# Altium footprint library PcbLib1.PcbLib: 58 footprints (part 3 of 4)
Each footprint in its own frame and in the unit in brackets; x right, y up, seen from the top. Pads: shape width x height; smd on the part's side, far side on the other; paste and mask are expansions set on the pad; w line width, h text height; cw(c..) or ccw(c..) is an arc to the next point about the centre after c.
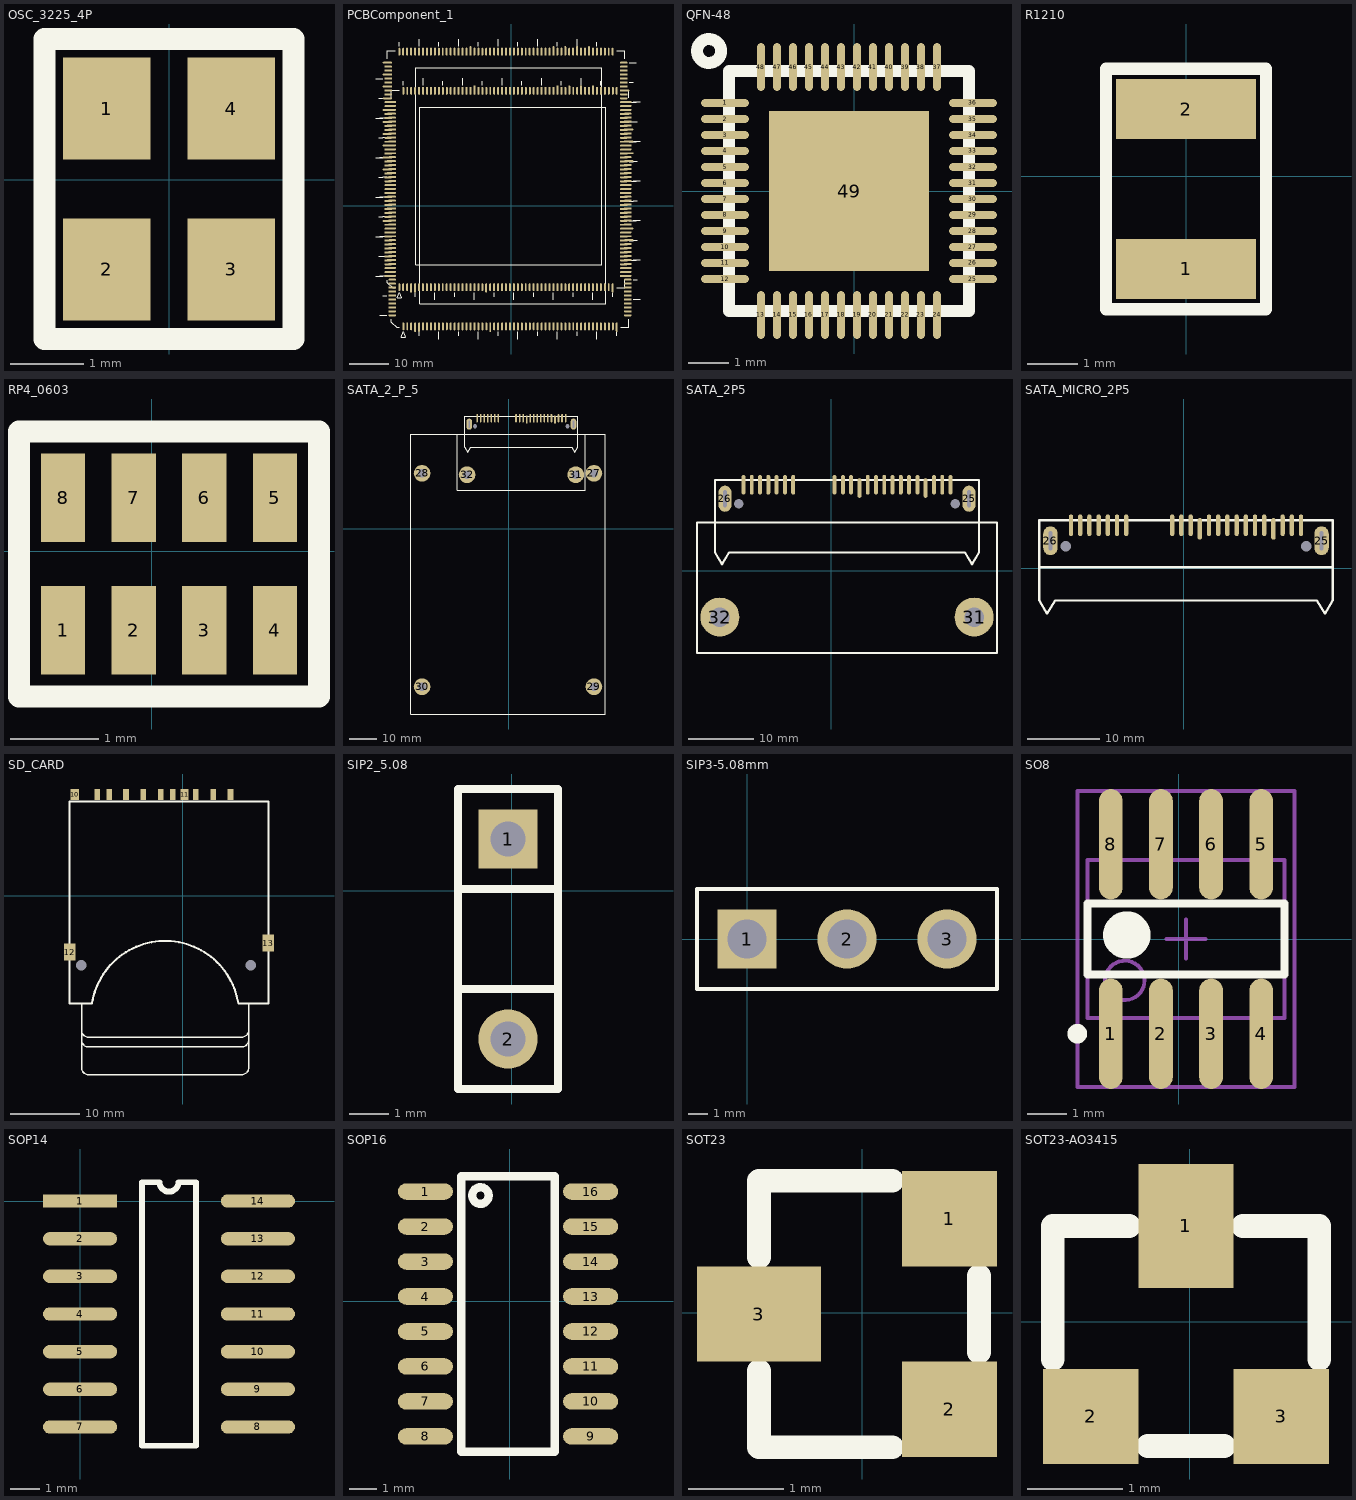
[diagram p2: the footprints below, top view; thin cyan lines are the x and y axes]

## OSC_3225_4P [mm]
pads (4):
  rect 1.2x1.4 smd: 1(-0.85,0.973) 2(-0.85,-1.227) 3(0.85,-1.227) 4(0.85,0.973)
Top Overlay:
  lines w0.3: -1.7,-2.177 1.7,-2.177 1.7,1.923 -1.7,1.923 -1.7,-2.177

## PCBComponent_1 [mm]
pads (440):
  oval 0.5x2 smd: 1(-28.27,-20.656) 1(-27.254,-30.562) 2(-27.27,-20.656) 2(-26.254,-30.562) 3(-26.27,-20.656) 3(-25.254,-30.562) 6(-23.27,-20.656) 6(-22.254,-30.562) 7(-22.27,-20.656) 7(-21.254,-30.562) 8(-21.27,-20.656) 8(-20.254,-30.562) 9(-20.27,-20.656) 9(-19.254,-30.562) 10(-19.27,-20.656) 10(-18.254,-30.562) 11(-18.27,-20.656) 11(-17.254,-30.562) 12(-17.27,-20.656) 12(-16.254,-30.562) 13(-16.27,-20.656) 13(-15.254,-30.562) 14(-15.27,-20.656) 14(-14.254,-30.562) 15(-14.27,-20.656) 15(-13.254,-30.562) 16(-13.27,-20.656) 16(-12.254,-30.562) 17(-12.27,-20.656) 17(-11.254,-30.562) 18(-11.27,-20.656) 18(-10.254,-30.562) 19(-10.27,-20.656) 19(-9.254,-30.562) 20(-9.27,-20.656) 20(-8.254,-30.562) 21(-8.27,-20.656) 21(-7.254,-30.562) 22(-7.27,-20.656) 22(-6.254,-30.562) 24(-5.27,-20.656) 24(-4.254,-30.562) 25(-4.27,-20.656) 25(-3.254,-30.562) 26(-3.27,-20.656) 26(-2.254,-30.562) 27(-2.27,-20.656) 27(-1.254,-30.562) 28(-1.27,-20.656) 28(-0.254,-30.562) 29(-0.27,-20.656) 29(0.746,-30.562) 30(0.73,-20.656) 30(1.746,-30.562) 31(1.73,-20.656) 31(2.746,-30.562) 32(2.73,-20.656) 32(3.746,-30.562) 33(3.73,-20.656) 33(4.746,-30.562) 34(4.73,-20.656) 34(5.746,-30.562) 35(5.73,-20.656) 35(6.746,-30.562) 36(6.73,-20.656) 36(7.746,-30.562) 37(7.73,-20.656) 37(8.746,-30.562) 38(8.73,-20.656) 38(9.746,-30.562) 39(9.73,-20.656) 39(10.746,-30.562) 40(10.73,-20.656) 40(11.746,-30.562) 41(11.73,-20.656) 41(12.746,-30.562) 42(12.73,-20.656) 42(13.746,-30.562) 43(13.73,-20.656) 43(14.746,-30.562) 44(14.73,-20.656) 44(15.746,-30.562) 45(15.73,-20.656) 45(16.746,-30.562) 46(16.73,-20.656) 46(17.746,-30.562) 47(17.73,-20.656) 47(18.746,-30.562) 48(18.73,-20.656) 48(19.746,-30.562) 49(19.73,-20.656) 49(20.746,-30.562) 50(20.73,-20.656) 50(21.746,-30.562) 51(21.73,-20.656) 51(22.746,-30.562) 52(22.73,-20.656) 52(23.746,-30.562) 53(23.73,-20.656) 53(24.746,-30.562) 54(24.73,-20.656) 54(25.746,-30.562) 111(25.73,38.944) 111(26.746,29.038) 112(24.73,38.944) 112(25.746,29.038) 113(23.73,38.944) 113(24.746,29.038) 114(22.73,38.944) 114(23.746,29.038) 115(21.73,38.944) 115(22.746,29.038) 116(20.73,38.944) 116(21.746,29.038) 118(18.73,38.944) 118(19.746,29.038) 119(17.73,38.944) 119(18.746,29.038) 121(15.73,38.944) 121(16.746,29.038) 122(14.73,38.944) 122(15.746,29.038) 124(12.73,38.944) 124(13.746,29.038) 125(11.73,38.944) 125(12.746,29.038) 127(9.73,38.944) 127(10.746,29.038) 128(8.73,38.944) 128(9.746,29.038) 129(7.73,38.944) 129(8.746,29.038) 130(6.73,38.944) 130(7.746,29.038) 131(5.73,38.944) 131(6.746,29.038) 132(4.73,38.944) 132(5.746,29.038) 133(3.73,38.944) 133(4.746,29.038) 134(2.73,38.944) 134(3.746,29.038) 135(1.73,38.944) 135(2.746,29.038) 136(0.73,38.944) 136(1.746,29.038) 137(-0.27,38.944) 137(0.746,29.038) 138(-1.27,38.944) 138(-0.254,29.038) 139(-2.27,38.944) 139(-1.254,29.038) 140(-3.27,38.944) 140(-2.254,29.038) 141(-4.27,38.944) 141(-3.254,29.038) 142(-5.27,38.944) 142(-4.254,29.038) 143(-6.27,38.944) 143(-5.254,29.038) 144(-7.27,38.944) 144(-6.254,29.038) 145(-8.27,38.944) 145(-7.254,29.038) 146(-9.27,38.944) 146(-8.254,29.038) 148(-11.27,38.944) 148(-10.254,29.038) 149(-12.27,38.944) 149(-11.254,29.038) 150(-13.27,38.944) 150(-12.254,29.038) 151(-14.27,38.944) 151(-13.254,29.038) 152(-15.27,38.944) 152(-14.254,29.038) 153(-16.27,38.944) 153(-15.254,29.038) 154(-17.27,38.944) 154(-16.254,29.038) 155(-18.27,38.944) 155(-17.254,29.038) 156(-19.27,38.944) 156(-18.254,29.038) 157(-20.27,38.944) 157(-19.254,29.038) 158(-21.27,38.944) 158(-20.254,29.038) 159(-22.27,38.944) 159(-21.254,29.038) 160(-23.27,38.944) 160(-22.254,29.038) 161(-24.27,38.944) 161(-23.254,29.038) 162(-25.27,38.944) 162(-24.254,29.038) 163(-26.27,38.944) 163(-25.254,29.038) 164(-27.27,38.944) 164(-26.254,29.038) 165(-28.27,38.944) 165(-27.254,29.038)
  oval 0.5x2.4 smd: 4(-25.27,-20.856) 4(-24.254,-30.762) 5(-24.27,-20.856) 5(-23.254,-30.762) 23(-6.27,-20.856) 23(-5.254,-30.762) 55(25.73,-20.856) 55(26.746,-30.762) 117(19.73,39.144) 117(20.746,29.238) 120(16.73,39.144) 120(17.746,29.238) 123(13.73,39.144) 123(14.746,29.238) 126(10.73,39.144) 126(11.746,29.238) 147(-10.27,39.144) 147(-9.254,29.238)
  oval 2x0.5 smd: 56(28.53,-17.856) 56(29.546,-27.762) 57(28.53,-16.856) 57(29.546,-26.762) 58(28.53,-15.856) 58(29.546,-25.762) 59(28.53,-14.856) 59(29.546,-24.762) 60(28.53,-13.856) 60(29.546,-23.762) 61(28.53,-12.856) 61(29.546,-22.762) 62(28.53,-11.856) 62(29.546,-21.762) 63(28.53,-10.856) 63(29.546,-20.762) 64(28.53,-9.856) 64(29.546,-19.762) 65(28.53,-8.856) 65(29.546,-18.762) 66(28.53,-7.856) 66(29.546,-17.762) 67(28.53,-6.856) 67(29.546,-16.762) 68(28.53,-5.856) 68(29.546,-15.762) 69(28.53,-4.856) 69(29.546,-14.762) 70(28.53,-3.856) 70(29.546,-13.762) 71(28.53,-2.856) 71(29.546,-12.762) 72(28.53,-1.856) 72(29.546,-11.762) 73(28.53,-0.856) 73(29.546,-10.762) 74(28.53,0.144) 74(29.546,-9.762) 76(28.53,2.144) 76(29.546,-7.762) 77(28.53,3.144) 77(29.546,-6.762) 79(28.53,5.144) 79(29.546,-4.762) 80(28.53,6.144) 80(29.546,-3.762) 81(28.53,7.144) 81(29.546,-2.762) 82(28.53,8.144) 82(29.546,-1.762) 83(28.53,9.144) 83(29.546,-0.762) 84(28.53,10.144) 84(29.546,0.238) 85(28.53,11.144) 85(29.546,1.238) 86(28.53,12.144) 86(29.546,2.238) 87(28.53,13.144) 87(29.546,3.238) 88(28.53,14.144) 88(29.546,4.238) 89(28.53,15.144) 89(29.546,5.238) 90(28.53,16.144) 90(29.546,6.238) 91(28.53,17.144) 91(29.546,7.238) 92(28.53,18.144) 92(29.546,8.238) 93(28.53,19.144) 93(29.546,9.238) 94(28.53,20.144) 94(29.546,10.238) 96(28.53,22.144) 96(29.546,12.238) 98(28.53,24.144) 98(29.546,14.238) 99(28.53,25.144) 99(29.546,15.238) 101(28.53,27.144) 101(29.546,17.238) 102(28.53,28.144) 102(29.546,18.238) 104(28.53,30.144) 104(29.546,20.238) 105(28.53,31.144) 105(29.546,21.238) 106(28.53,32.144) 106(29.546,22.238) 107(28.53,33.144) 107(29.546,23.238) 108(28.53,34.144) 108(29.546,24.238) 109(28.53,35.144) 109(29.546,25.238) 110(28.53,36.144) 110(29.546,26.238) 167(-31.07,35.144) 167(-30.054,25.238) 168(-31.07,34.144) 168(-30.054,24.238) 170(-31.07,32.144) 170(-30.054,22.238) 171(-31.07,31.144) 171(-30.054,21.238) 173(-31.07,29.144) 173(-30.054,19.238) 174(-31.07,28.144) 174(-30.054,18.238) 176(-31.07,26.144) 176(-30.054,16.238) 177(-31.07,25.144) 177(-30.054,15.238) 179(-31.07,23.144) 179(-30.054,13.238) 180(-31.07,22.144) 180(-30.054,12.238) 182(-31.07,20.144) 182(-30.054,10.238) 183(-31.07,19.144) 183(-30.054,9.238) 185(-31.07,17.144) 185(-30.054,7.238) 186(-31.07,16.144) 186(-30.054,6.238) 188(-31.07,14.144) 188(-30.054,4.238) 189(-31.07,13.144) 189(-30.054,3.238) 191(-31.07,11.144) 191(-30.054,1.238) 192(-31.07,10.144) 192(-30.054,0.238) 194(-31.07,8.144) 194(-30.054,-1.762) 195(-31.07,7.144) 195(-30.054,-2.762) 196(-31.07,6.144) 196(-30.054,-3.762) 197(-31.07,5.144) 197(-30.054,-4.762) 198(-31.07,4.144) 198(-30.054,-5.762) 199(-31.07,3.144) 199(-30.054,-6.762) 200(-31.07,2.144) 200(-30.054,-7.762) 201(-31.07,1.144) 201(-30.054,-8.762) 202(-31.07,0.144) 202(-30.054,-9.762) 203(-31.07,-0.856) 203(-30.054,-10.762) 204(-31.07,-1.856) 204(-30.054,-11.762) 205(-31.07,-2.856) 205(-30.054,-12.762) 207(-31.07,-4.856) 207(-30.054,-14.762) 208(-31.07,-5.856) 208(-30.054,-15.762) 209(-31.07,-6.856) 209(-30.054,-16.762) 210(-31.07,-7.856) 210(-30.054,-17.762) 211(-31.07,-8.856) 211(-30.054,-18.762) 212(-31.07,-9.856) 212(-30.054,-19.762) 213(-31.07,-10.856) 213(-30.054,-20.762) 214(-31.07,-11.856) 214(-30.054,-21.762) 215(-31.07,-12.856) 215(-30.054,-22.762) 216(-31.07,-13.856) 216(-30.054,-23.762) 217(-31.07,-14.856) 217(-30.054,-24.762) 218(-31.07,-15.856) 218(-30.054,-25.762) 219(-31.07,-16.856) 219(-30.054,-26.762) 220(-31.07,-17.856) 220(-30.054,-27.762)
  oval 2.4x0.5 smd: 75(28.73,1.144) 75(29.746,-8.762) 78(28.73,4.144) 78(29.746,-5.762) 95(28.73,21.144) 95(29.746,11.238) 97(28.73,23.144) 97(29.746,13.238) 100(28.73,26.144) 100(29.746,16.238) 103(28.73,29.144) 103(29.746,19.238) 166(-31.27,36.144) 166(-30.254,26.238) 169(-31.27,33.144) 169(-30.254,23.238) 172(-31.27,30.144) 172(-30.254,20.238) 175(-31.27,27.144) 175(-30.254,17.238) 178(-31.27,24.144) 178(-30.254,14.238) 181(-31.27,21.144) 181(-30.254,11.238) 184(-31.27,18.144) 184(-30.254,8.238) 187(-31.27,15.144) 187(-30.254,5.238) 190(-31.27,12.144) 190(-30.254,2.238) 193(-31.27,9.144) 193(-30.254,-0.762) 206(-31.27,-3.856) 206(-30.254,-13.762)
Top Overlay:
  lines w0.1: -24.07,-14.956 22.93,-14.956 22.93,34.844 -24.07,34.844 -24.07,-14.956 ; -23.054,-24.862 23.946,-24.862 23.946,24.938 -23.054,24.938 -23.054,-24.862
  lines w0.3: -34.27,-17.856 -32.47,-17.856 ; -34.27,-7.856 -32.47,-7.856 ; -34.27,2.144 -32.47,2.144 ; -34.27,12.144 -32.47,12.144 ; -34.27,22.144 -32.47,22.144 ; -34.27,32.144 -32.47,32.144 ; -33.47,-12.856 -32.47,-12.856 ; -33.47,-2.856 -32.47,-2.856 ; -33.47,7.144 -32.47,7.144 ; -33.47,17.144 -32.47,17.144 ; -33.47,27.144 -32.47,27.144 ; -33.254,-27.762 -31.454,-27.762 ; -33.254,-17.762 -31.454,-17.762 ; -33.254,-7.762 -31.454,-7.762 ; -33.254,2.238 -31.454,2.238 ; -33.254,12.238 -31.454,12.238 ; -33.254,22.238 -31.454,22.238 ; -32.454,-22.762 -31.454,-22.762 ; -32.454,-12.762 -31.454,-12.762 ; -32.454,-2.762 -31.454,-2.762 ; -32.454,7.238 -31.454,7.238 ; -32.454,17.238 -31.454,17.238 ; -31.27,-18.856 -31.27,-19.556 -29.97,-20.856 -29.27,-20.856 ; -31.27,37.144 -31.27,39.144 -29.27,39.144 ; -30.254,-28.762 -30.254,-29.462 -28.954,-30.762 -28.254,-30.762 ; -30.254,27.238 -30.254,29.238 -28.254,29.238 ; -28.27,40.344 -28.27,41.344 ; -27.254,30.438 -27.254,31.438 ; -24.27,-23.056 -24.27,-22.056 ; -23.27,40.344 -23.27,42.144 ; -23.254,-32.962 -23.254,-31.962 ; -22.254,30.438 -22.254,32.238 ; -19.27,-23.856 -19.27,-22.056 ; -18.27,40.344 -18.27,41.344 ; -18.254,-33.762 -18.254,-31.962 ; -17.254,30.438 -17.254,31.438 ; -14.27,-23.056 -14.27,-22.056 ; -13.27,40.344 -13.27,42.144 ; -13.254,-32.962 -13.254,-31.962 ; -12.254,30.438 -12.254,32.238 ; -9.27,-23.856 -9.27,-22.056 ; -8.27,40.344 -8.27,41.344 ; -8.254,-33.762 -8.254,-31.962 ; -7.254,30.438 -7.254,31.438 ; -4.27,-23.056 -4.27,-22.056 ; -3.27,40.344 -3.27,42.144 ; -3.254,-32.962 -3.254,-31.962 ; -2.254,30.438 -2.254,32.238 ; 0.73,-23.856 0.73,-22.056 ; 1.73,40.344 1.73,41.344 ; 1.746,-33.762 1.746,-31.962 ; 2.746,30.438 2.746,31.438 ; 5.73,-23.056 5.73,-22.056 ; 6.73,40.344 6.73,42.144 ; 6.746,-32.962 6.746,-31.962 ; 7.746,30.438 7.746,32.238 ; 10.73,-23.856 10.73,-22.056 ; 11.73,40.344 11.73,41.344 ; 11.746,-33.762 11.746,-31.962 ; 12.746,30.438 12.746,31.438 ; 15.73,-23.056 15.73,-22.056 ; 16.73,40.344 16.73,42.144 ; 16.746,-32.962 16.746,-31.962 ; 17.746,30.438 17.746,32.238 ; 20.73,-23.856 20.73,-22.056 ; 21.73,40.344 21.73,41.344 ; 21.746,-33.762 21.746,-31.962 ; 22.746,30.438 22.746,31.438 ; 25.73,-23.056 25.73,-22.056 ; 26.73,-20.856 28.73,-20.856 28.73,-18.856 ; 26.73,39.144 28.73,39.144 28.73,37.144 ; 26.746,-32.962 26.746,-31.962 ; 27.746,-30.762 29.746,-30.762 29.746,-28.762 ; 27.746,29.238 29.746,29.238 29.746,27.238 ; 29.93,-13.856 31.73,-13.856 ; 29.93,-8.856 30.93,-8.856 ; 29.93,-3.856 31.73,-3.856 ; 29.93,1.144 30.93,1.144 ; 29.93,6.144 31.73,6.144 ; 29.93,11.144 30.93,11.144 ; 29.93,16.144 31.73,16.144 ; 29.93,21.144 30.93,21.144 ; 29.93,26.144 31.73,26.144 ; 29.93,31.144 30.93,31.144 ; 29.93,36.144 31.73,36.144 ; 30.946,-23.762 32.746,-23.762 ; 30.946,-18.762 31.946,-18.762 ; 30.946,-13.762 32.746,-13.762 ; 30.946,-8.762 31.946,-8.762 ; 30.946,-3.762 32.746,-3.762 ; 30.946,1.238 31.946,1.238 ; 30.946,6.238 32.746,6.238 ; 30.946,11.238 31.946,11.238 ; 30.946,16.238 32.746,16.238 ; 30.946,21.238 31.946,21.238 ; 30.946,26.238 32.746,26.238 ; -28.77,-23.356 -28.27,-22.056 -27.77,-23.356 -28.77,-23.356 ; -27.754,-33.262 -27.254,-31.962 -26.754,-33.262 -27.754,-33.262

## QFN-48 [mm]
pads (49):
  oval 1.2x0.2 smd: 1(-3.227,2.2) 2(-3.227,1.8) 3(-3.227,1.4) 4(-3.227,1) 5(-3.227,0.6) 6(-3.227,0.2) 7(-3.227,-0.2) 8(-3.227,-0.6) 9(-3.227,-1) 10(-3.227,-1.4) 11(-3.227,-1.8) 12(-3.227,-2.2) 25(2.973,-2.2) 26(2.973,-1.8) 27(2.973,-1.4) 28(2.973,-1) 29(2.973,-0.6) 30(2.973,-0.2) 31(2.973,0.2) 32(2.973,0.6) 33(2.973,1) 34(2.973,1.4) 35(2.973,1.8) 36(2.973,2.2)
  oval 0.2x1.2 smd: 13(-2.327,-3.1) 14(-1.927,-3.1) 15(-1.527,-3.1) 16(-1.127,-3.1) 17(-0.727,-3.1) 18(-0.327,-3.1) 19(0.073,-3.1) 20(0.473,-3.1) 21(0.873,-3.1) 22(1.273,-3.1) 23(1.673,-3.1) 24(2.073,-3.1) 37(2.073,3.1) 38(1.673,3.1) 39(1.273,3.1) 40(0.873,3.1) 41(0.473,3.1) 42(0.073,3.1) 43(-0.327,3.1) 44(-0.727,3.1) 45(-1.127,3.1) 46(-1.527,3.1) 47(-1.927,3.1) 48(-2.327,3.1)
  rrect0% 4x4 smd: 49(-0.127,0)
Top Overlay:
  circle w0.3: c-3.627,3.5 r0.3
  lines w0.3: -3.127,-3 -3.127,3 2.873,3 2.873,-3 -3.127,-3

## R1210 [mm]
pads (2):
  rect 2.8x1.2 smd: 1(0,-1.854) 2(0,1.346)
Top Overlay:
  lines w0.25: -1.6,-2.654 -1.6,2.146 1.6,2.146 1.6,-2.654 -1.6,-2.654

## RP4_0603 [mm]
pads (8):
  rect 0.5x1 smd: 1(-1.005,-0.895) 2(-0.205,-0.895) 3(0.595,-0.895) 4(1.395,-0.895) 5(1.395,0.605) 6(0.595,0.605) 7(-0.205,0.605) 8(-1.005,0.605)
Top Overlay:
  lines w0.25: -1.505,-1.645 1.895,-1.645 1.895,1.355 -1.505,1.355 -1.505,-1.645

## SATA_2_P_5 [mm]
pads (32):
  oval 0.6x3 smd: 1(-11.329,39.709) 2(-10.059,39.709) 3(-8.789,39.709) 4(-7.519,39.709) 5(-6.249,39.709) 6(-4.979,39.709) 7(-3.709,39.709) 8(2.641,39.709) 9(3.911,39.709) 10(5.181,39.709) 11(6.451,39.209) 12(7.721,39.709) 13(8.991,39.709) 14(10.261,39.709) 15(11.531,39.709) 16(12.801,39.709) 17(14.071,39.709) 18(15.341,39.709) 19(16.611,39.209) 20(17.881,39.709) 21(19.151,39.709) 22(20.421,39.709)
  round 1 hole 1.5 unplated: 23(21.141,36.809) 24(-12.049,36.809)
  oval 2x4 hole 0.5 slot 2.6 at 90 deg: 25(23.256,37.569) 26(-14.164,37.569)
  round 6 hole 3: 27(30.606,19.909) 28(-31.114,19.909) 29(30.606,-56.691) 30(-31.114,-56.691) 31(24.046,19.409) 32(-14.954,19.409)
Top Overlay:
  lines w0.3: -18.454,33.909 -18.454,13.909 27.546,13.909 27.546,33.909 ; -35.154,-66.491 34.646,-66.491 34.646,33.909 -35.154,33.909 -35.154,-66.491 ; -15.704,29.309 -14.629,27.509 -13.554,29.309 22.646,29.309 23.721,27.509 24.796,29.309 24.796,40.409 -15.704,40.409 -15.704,29.309

## SATA_2P5 [mm]
pads (28):
  oval 0.6x3 smd: 1(-13.488,13.166) 2(-12.218,13.166) 3(-10.948,13.166) 4(-9.678,13.166) 5(-8.408,13.166) 6(-7.138,13.166) 7(-5.868,13.166) 8(0.482,13.166) 9(1.752,13.166) 10(3.022,13.166) 11(4.292,12.666) 12(5.562,13.166) 13(6.832,13.166) 14(8.102,13.166) 15(9.372,13.166) 16(10.642,13.166) 17(11.912,13.166) 18(13.182,13.166) 19(14.452,12.666) 20(15.722,13.166) 21(16.992,13.166) 22(18.262,13.166)
  round 1 hole 1.5 unplated: 23(18.982,10.266) 24(-14.208,10.266)
  oval 2x4 hole 0.5 slot 2.6 at 90 deg: 25(21.097,11.026) 26(-16.323,11.026)
  round 6 hole 3: 31(21.887,-7.134) 32(-17.113,-7.134)
Top Overlay:
  lines w0.3: -20.613,-12.634 -20.613,7.366 25.387,7.366 25.387,-12.634 -20.613,-12.634 ; -17.863,2.766 -17.863,13.866 22.637,13.866 22.637,2.766 21.562,0.966 20.487,2.766 -15.713,2.766 -16.788,0.966 -17.863,2.766

## SATA_MICRO_2P5 [mm]
pads (26):
  oval 0.6x3 smd: 1(-15.596,5.952) 2(-14.326,5.952) 3(-13.056,5.952) 4(-11.786,5.952) 5(-10.516,5.952) 6(-9.246,5.952) 7(-7.976,5.952) 8(-1.626,5.952) 9(-0.356,5.952) 10(0.914,5.952) 11(2.184,5.452) 12(3.454,5.952) 13(4.724,5.952) 14(5.994,5.952) 15(7.264,5.952) 16(8.534,5.952) 17(9.804,5.952) 18(11.074,5.952) 19(12.344,5.452) 20(13.614,5.952) 21(14.884,5.952) 22(16.154,5.952)
  round 1 hole 1.5 unplated: 23(16.874,3.052) 24(-16.316,3.052)
  oval 2x4 hole 0.5 slot 2.6 at 90 deg: 25(18.989,3.812) 26(-18.431,3.812)
Top Overlay:
  lines w0.3: -19.971,0.152 20.529,0.152 ; -19.971,-4.448 -19.971,6.652 20.529,6.652 20.529,-4.448 19.454,-6.248 18.379,-4.448 -17.821,-4.448 -18.896,-6.248 -19.971,-4.448

## SD_CARD [mm]
pads (15):
  rect 0.8x1.6 smd: 1(4.34,14.483) 2(1.84,14.483) 3(-1.46,14.483) 4(-3.16,14.483) 5(-5.66,14.483) 6(-8.16,14.483) 7(-10.59,14.483) 8(-12.29,14.483) 9(6.84,14.483)
  rect 1.2x1.6 smd: 10(-15.54,14.483) 11(0.24,14.483)
  rect 1.6x2.4 smd: 12(-16.24,-8.117) 13(12.26,-6.817)
  round 1 hole 1.5: 14(-14.59,-10.017) 15(9.71,-10.017)
Top Overlay:
  lines w0.2: -14.54,-20.717 ccw(c-13.54,-20.717) -13.54,-21.717 8.46,-21.717 ccw(c8.46,-20.717) 9.46,-20.717 ; -14.54,-19.317 ccw(c-13.54,-19.317) -13.54,-20.317 8.46,-20.317 ccw(c8.46,-19.317) 9.46,-19.317 ; -14.54,-15.517 -14.54,-24.717 ccw(c-13.54,-24.717) -13.54,-25.717 8.46,-25.717 ccw(c8.46,-24.717) 9.46,-24.717 9.46,-15.517
  lines w0.3: -13.04,-15.517 -16.29,-15.517 -16.29,13.483 12.31,13.483 12.31,-15.517 7.96,-15.517 ; -13.04,-15.515 cw(c-2.54,-17.141) 7.96,-15.515

## SIP2_5.08 [mm]
pads (2):
  rect 1.5x1.5 hole 0.9: 1(-0.1,1.32)
  round 1.5 hole 0.9: 2(-0.1,-3.76)
Top Overlay:
  lines w0.2: -1.37,-5.03 -1.37,0.05 1.17,0.05 1.17,-5.03 -1.37,-5.03 ; -1.37,-2.49 -1.37,2.59 1.17,2.59 1.17,-2.49 -1.37,-2.49

## SIP3-5.08mm [mm]
pads (3):
  rect 3x3 hole 2: 1(0,0)
  round 3 hole 2: 2(5.08,0) 3(10.16,0)
Top Overlay:
  lines w0.2: -1.27,-1.27 -1.27,1.27
  lines w0.203: -2.54,-2.54 12.7,-2.54 12.7,2.54 -2.54,2.54 -2.54,-2.54

## SO8 [mm]
pads (8):
  oval 0.6x2.8 smd: 1(-1.727,-2.4) 2(-0.457,-2.4) 3(0.813,-2.4) 4(2.083,-2.4) 5(2.083,2.4) 6(0.813,2.4) 7(-0.457,2.4) 8(-1.727,2.4)
Top Overlay:
  circle w0.25: c-2.577,-2.4 r0.125
  circle w0.6: c-1.322,0.1 r0.3
  lines w0.2: -2.322,-0.9 2.678,-0.9 2.678,0.9 -2.322,0.9 -2.322,-0.9
Mechanical 13:
  circle w0.1: c-1.372,-1.05 r0.5
  lines w0.1: -2.322,-2 2.678,-2 2.678,2 -2.322,2 -2.322,-2
Mechanical 15:
  lines w0.1: -0.322,0 0.678,0 ; 0.178,-0.5 0.178,0.5 ; -2.572,-3.75 2.928,-3.75 2.928,3.75 -2.572,3.75 -2.572,-3.75
3D body: height 1.7, standoff 0.17, extent -2.322,-2 2.678,2

## SOP14 [mm]
pads (14):
  rect 2.5x0.45 smd: 1(0,0)
  oval 2.5x0.45 smd: 2(0,-1.27) 3(0,-2.54) 4(0,-3.81) 5(0,-5.08) 6(0,-6.35) 7(0,-7.62) 8(6,-7.62) 9(6,-6.35) 10(6,-5.08) 11(6,-3.81) 12(6,-2.54) 13(6,-1.27) 14(6,0)
Top Overlay:
  lines w0.2: 2.085,-8.255 2.085,0.635 2.682,0.635 ccw(c3,0.635) 3.317,0.635 3.915,0.635 3.915,-8.255 2.085,-8.255

## SOP16 [mm]
pads (16):
  oval 2x0.6 smd: 1(-3.058,3.99) 2(-3.058,2.72) 3(-3.058,1.45) 4(-3.058,0.18) 5(-3.058,-1.09) 6(-3.058,-2.36) 7(-3.058,-3.63) 8(-3.058,-4.9) 9(2.942,-4.9) 10(2.942,-3.63) 11(2.942,-2.36) 12(2.942,-1.09) 13(2.942,0.18) 14(2.942,1.45) 15(2.942,2.72) 16(2.942,3.99)
Top Overlay:
  circle w0.3: c-1.058,3.845 r0.3
  lines w0.3: -1.758,-5.455 -1.758,4.545 1.642,4.545 1.642,-5.455 -1.758,-5.455

## SOT23 [mm]
pads (3):
  rect 1x1 smd: 1(0.915,0.989) 2(0.915,-1.011)
  rect 1.3x1 smd: 3(-1.085,-0.011)
Top Overlay:
  lines w0.25: -1.085,-0.611 -1.085,-1.411 0.315,-1.411 ; -1.085,0.589 -1.085,1.389 0.315,1.389 ; 1.227,-0.411 1.227,0.389

## SOT23-AO3415 [mm]
pads (3):
  rect 1x1.3 smd: 1(-0.037,1.008)
  rect 1x1 smd: 2(-1.037,-0.992) 3(0.963,-0.992)
Top Overlay:
  lines w0.25: -1.437,-0.392 -1.437,1.008 -0.637,1.008 ; -0.437,-1.303 0.363,-1.303 ; 0.563,1.008 1.363,1.008 1.363,-0.392